# Altium integrated library Actel ProASIC3.IntLib: 427 symbols (part 37 of 68)
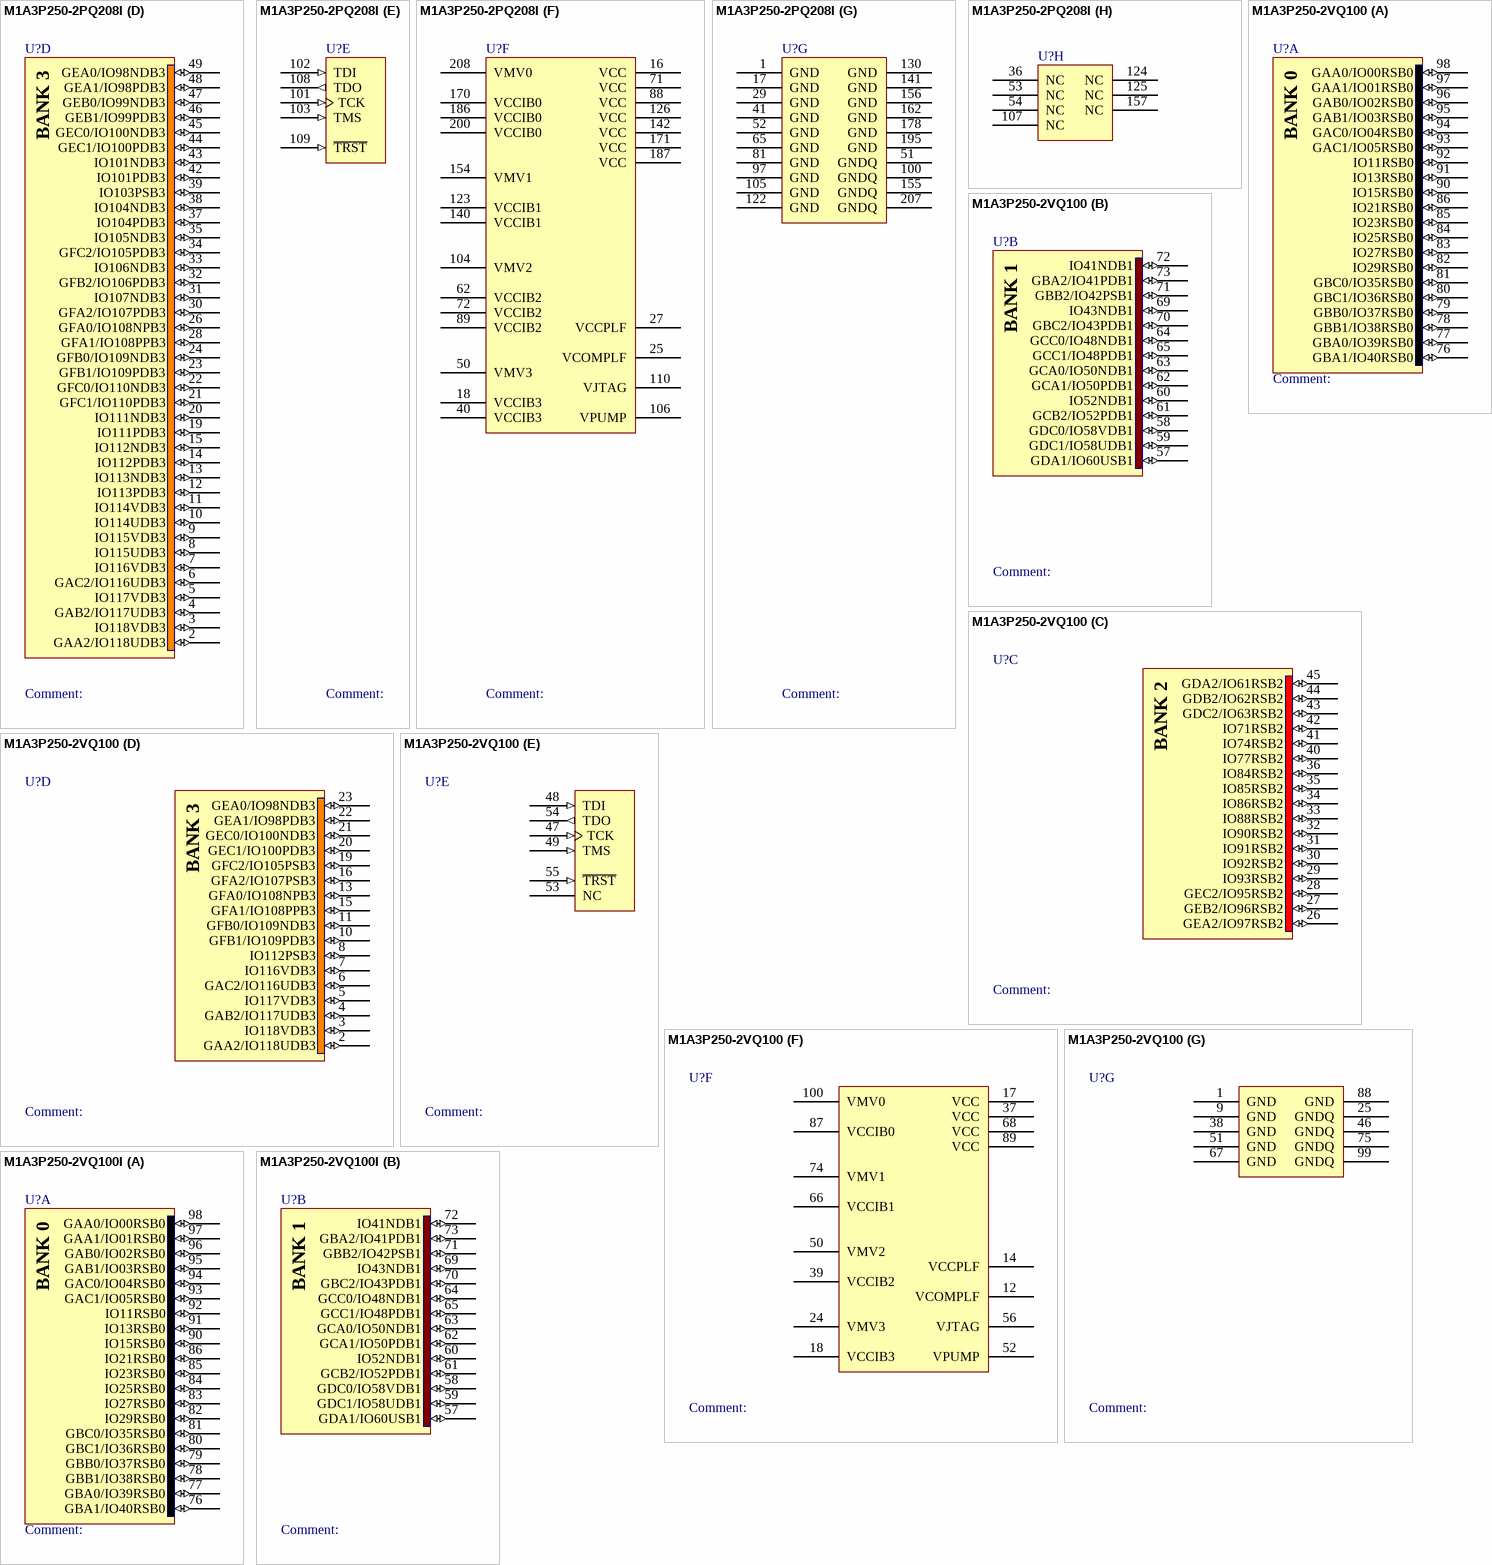
[diagram p419: symbols M1A3P250-2PQ208I to M1A3P250-2VQ100I]

## M1A3P250-2PQ208I
designator U?
M1-Ready ProASIC3 Flash Family FPGA, 151 User IOs, 250K System Gates, 36 Kbits RAM, 1 Kbit Flash ROM, 1 PLL, 208-Pin PQFP, Industrial Grade; Published: 30-Apr-2009; DatasheetVersion: v1.1, Feb-2009; PackageVersion: v11.0, Feb-2009; PackageReference: PQ208; Publisher: Altium Limited; PackageDescription: 208-Pin Plastic Quad Flat Pack (PQ208); Code_JEDEC: MS-029-FA-1; ComponentLink1Description: Manufacturer Link; ComponentLink1URL: http://www.actel.com/products/pa3/; ComponentLink2Description: Datasheet; ComponentLink2URL: http://www.actel.com/documents/PA3_DS.pdf; ComponentLink3Description: Packaging Specification; ComponentLink3URL: http://www.actel.com/documents/PckgMechDrwngs.pdf
footprint PQ208_N (Shrink QFP, 208-Leads, Body 28x28mm, Pitch 0.5mm, IPC Medium Density)
footprint PQ208_L (Shrink QFP, 208-Leads, Body 28x28mm, Pitch 0.5mm, IPC High Density)
footprint PQ208_M (Shrink QFP, 208-Leads, Body 28x28mm, Pitch 0.5mm, IPC Low Density)
3D model M1A3P250-PQ208 (208-Pin Plastic Quad Flat Pack (PQ208))
signal-integrity model M1A3P250_PQ208 (ProASIC3)
part A pins: 158 GBA1/IO40RSB0 (io), 159 GBA0/IO39RSB0 (io), 160 GBB1/IO38RSB0 (io), 161 GBB0/IO37RSB0 (io), 163 GBC1/IO36RSB0 (io), 164 GBC0/IO35RSB0 (io), 165 IO34RSB0 (io), 166 IO33RSB0 (io), 167 IO32RSB0 (io), 168 IO31RSB0 (io), 169 IO30RSB0 (io), 172 IO29RSB0 (io), 173 IO28RSB0 (io), 174 IO27RSB0 (io), 175 IO26RSB0 (io), 176 IO25RSB0 (io), 177 IO24RSB0 (io), 179 IO23RSB0 (io), 180 IO22RSB0 (io), 181 IO21RSB0 (io), 182 IO20RSB0 (io), 183 IO19RSB0 (io), 184 IO18RSB0 (io), 185 IO17RSB0 (io), 188 IO16RSB0 (io), 189 IO15RSB0 (io), 190 IO14RSB0 (io), 191 IO13RSB0 (io), 192 IO12RSB0 (io), 193 IO11RSB0 (io), 194 IO10RSB0 (io), 196 IO09RSB0 (io), 197 IO08RSB0 (io), 198 IO07RSB0 (io), 199 IO06RSB0 (io), 201 GAC1/IO05RSB0 (io), 202 GAC0/IO04RSB0 (io), 203 GAB1/IO03RSB0 (io), 204 GAB0/IO02RSB0 (io), 205 GAA1/IO01RSB0 (io), 206 GAA0/IO00RSB0 (io)
part B pins: 111 GDA0/IO60VDB1 (io), 112 GDA1/IO60UDB1 (io), 113 GDB0/IO59VDB1 (io), 114 GDB1/IO59UDB1 (io), 115 GDC0/IO58VDB1 (io), 116 GDC1/IO58UDB1 (io), 117 IO57VDB1 (io), 118 IO57UDB1 (io), 119 IO56NDB1 (io), 120 IO56PDB1 (io), 121 IO55RSB1 (io), 127 IO53NDB1 (io), 128 GCC2/IO53PDB1 (io), 129 GCB2/IO52PSB1 (io), 131 GCA2/IO51PSB1 (io), 132 GCA1/IO50PDB1 (io), 133 GCA0/IO50NDB1 (io), 134 GCB0/IO49NDB1 (io), 135 GCB1/IO49PDB1 (io), 136 GCC0/IO48NDB1 (io), 137 GCC1/IO48PDB1 (io), 138 IO47NDB1 (io), 139 IO47PDB1 (io), 143 IO46RSB1 (io), 144 IO45NDB1 (io), 145 IO45PDB1 (io), 146 IO44NDB1 (io), 147 IO44PDB1 (io), 148 IO43NDB1 (io), 149 GBC2/IO43PDB1 (io), 150 IO42NDB1 (io), 151 GBB2/IO42PDB1 (io), 152 IO41NDB1 (io), 153 GBA2/IO41PDB1 (io)
part C pins: 55 GEA2/IO97RSB2 (io), 56 GEB2/IO96RSB2 (io), 57 GEC2/IO95RSB2 (io), 58 IO94RSB2 (io), 59 IO93RSB2 (io), 60 IO92RSB2 (io), 61 IO91RSB2 (io), 63 IO90RSB2 (io), 64 IO89RSB2 (io), 66 IO88RSB2 (io), 67 IO87RSB2 (io), 68 IO86RSB2 (io), 69 IO85RSB2 (io), 70 IO84RSB2 (io), 73 IO83RSB2 (io), 74 IO82RSB2 (io), 75 IO81RSB2 (io), 76 IO80RSB2 (io), 77 IO79RSB2 (io), 78 IO78RSB2 (io), 79 IO77RSB2 (io), 80 IO76RSB2 (io), 82 IO75RSB2 (io), 83 IO74RSB2 (io), 84 IO73RSB2 (io), 85 IO72RSB2 (io), 86 IO71RSB2 (io), 87 IO70RSB2 (io), 90 IO69RSB2 (io), 91 IO68RSB2 (io), 92 IO67RSB2 (io), 93 IO66RSB2 (io), 94 IO65RSB2 (io), 95 IO64RSB2 (io), 96 GDC2/IO63RSB2 (io), 98 GDB2/IO62RSB2 (io), 99 GDA2/IO61RSB2 (io)
part D pins: 2 GAA2/IO118UDB3 (io), 3 IO118VDB3 (io), 4 GAB2/IO117UDB3 (io), 5 IO117VDB3 (io), 6 GAC2/IO116UDB3 (io), 7 IO116VDB3 (io), 8 IO115UDB3 (io), 9 IO115VDB3 (io), 10 IO114UDB3 (io), 11 IO114VDB3 (io), 12 IO113PDB3 (io), 13 IO113NDB3 (io), 14 IO112PDB3 (io), 15 IO112NDB3 (io), 19 IO111PDB3 (io), 20 IO111NDB3 (io), 21 GFC1/IO110PDB3 (io), 22 GFC0/IO110NDB3 (io), 23 GFB1/IO109PDB3 (io), 24 GFB0/IO109NDB3 (io), 26 GFA0/IO108NPB3 (io), 28 GFA1/IO108PPB3 (io), 30 GFA2/IO107PDB3 (io), 31 IO107NDB3 (io), 32 GFB2/IO106PDB3 (io), 33 IO106NDB3 (io), 34 GFC2/IO105PDB3 (io), 35 IO105NDB3 (io), 37 IO104PDB3 (io), 38 IO104NDB3 (io), 39 IO103PSB3 (io), 42 IO101PDB3 (io), 43 IO101NDB3 (io), 44 GEC1/IO100PDB3 (io), 45 GEC0/IO100NDB3 (io), 46 GEB1/IO99PDB3 (io), 47 GEB0/IO99NDB3 (io), 48 GEA1/IO98PDB3 (io), 49 GEA0/IO98NDB3 (io)
part E pins: 101 TCK (in), 102 TDI (in), 103 TMS (in), 108 TDO (out), 109 ~{TRST} (in)
part F pins: 16 VCC (power), 18 VCCIB3 (power), 25 VCOMPLF (power), 27 VCCPLF (power), 40 VCCIB3 (power), 50 VMV3 (power), 62 VCCIB2 (power), 71 VCC (power), 72 VCCIB2 (power), 88 VCC (power), 89 VCCIB2 (power), 104 VMV2 (power), 106 VPUMP (power), 110 VJTAG (power), 123 VCCIB1 (power), 126 VCC (power), 140 VCCIB1 (power), 142 VCC (power), 154 VMV1 (power), 170 VCCIB0 (power), 171 VCC (power), 186 VCCIB0 (power), 187 VCC (power), 200 VCCIB0 (power), 208 VMV0 (power)
part G pins: 1 GND (power), 17 GND (power), 29 GND (power), 41 GND (power), 51 GNDQ (power), 52 GND (power), 65 GND (power), 81 GND (power), 97 GND (power), 100 GNDQ (power), 105 GND (power), 122 GND (power), 130 GND (power), 141 GND (power), 155 GNDQ (power), 156 GND (power), 162 GND (power), 178 GND (power), 195 GND (power), 207 GNDQ (power)
part H pins: 36 NC, 53 NC, 54 NC, 107 NC, 124 NC, 125 NC, 157 NC
part A text: BANK 0
part B text: BANK 1
part C text: BANK 2
part D text: BANK 3

## M1A3P250-2VQ100
designator U?
M1-Ready ProASIC3 Flash Family FPGA, 68 User IOs, 250K System Gates, 36 Kbits RAM, 1 Kbit Flash ROM, 1 PLL, 100-Pin VQFP, Commercial Grade; Published: 30-Apr-2009; DatasheetVersion: v1.1, Feb-2009; PackageVersion: v11.0, Feb-2009; PackageReference: VQ100; Publisher: Altium Limited; PackageDescription: 100-Pin Plastic Quad Flat Pack (VQ100); Code_JEDEC: MS-026-AED; ComponentLink1Description: Manufacturer Link; ComponentLink1URL: http://www.actel.com/products/pa3/; ComponentLink2Description: Datasheet; ComponentLink2URL: http://www.actel.com/documents/PA3_DS.pdf; ComponentLink3Description: Packaging Specification; ComponentLink3URL: http://www.actel.com/documents/PckgMechDrwngs.pdf
footprint VQ100_N (Thin QFP, 100-Leads, Body 14x14mm, Pitch 0.5mm, IPC Medium Density)
footprint VQ100_L (Thin QFP, 100-Leads, Body 14x14mm, Pitch 0.5mm, IPC High Density)
footprint VQ100_M (Thin QFP, 100-Leads, Body 14x14mm, Pitch 0.5mm, IPC Low Density)
3D model M1A3P250-VQ100 (100-Pin Plastic Quad Flat Pack (VQ100))
signal-integrity model M1A3P250_VQ100 (ProASIC3)
part A pins: 76 GBA1/IO40RSB0 (io), 77 GBA0/IO39RSB0 (io), 78 GBB1/IO38RSB0 (io), 79 GBB0/IO37RSB0 (io), 80 GBC1/IO36RSB0 (io), 81 GBC0/IO35RSB0 (io), 82 IO29RSB0 (io), 83 IO27RSB0 (io), 84 IO25RSB0 (io), 85 IO23RSB0 (io), 86 IO21RSB0 (io), 90 IO15RSB0 (io), 91 IO13RSB0 (io), 92 IO11RSB0 (io), 93 GAC1/IO05RSB0 (io), 94 GAC0/IO04RSB0 (io), 95 GAB1/IO03RSB0 (io), 96 GAB0/IO02RSB0 (io), 97 GAA1/IO01RSB0 (io), 98 GAA0/IO00RSB0 (io)
part B pins: 57 GDA1/IO60USB1 (io), 58 GDC0/IO58VDB1 (io), 59 GDC1/IO58UDB1 (io), 60 IO52NDB1 (io), 61 GCB2/IO52PDB1 (io), 62 GCA1/IO50PDB1 (io), 63 GCA0/IO50NDB1 (io), 64 GCC0/IO48NDB1 (io), 65 GCC1/IO48PDB1 (io), 69 IO43NDB1 (io), 70 GBC2/IO43PDB1 (io), 71 GBB2/IO42PSB1 (io), 72 IO41NDB1 (io), 73 GBA2/IO41PDB1 (io)
part C pins: 26 GEA2/IO97RSB2 (io), 27 GEB2/IO96RSB2 (io), 28 GEC2/IO95RSB2 (io), 29 IO93RSB2 (io), 30 IO92RSB2 (io), 31 IO91RSB2 (io), 32 IO90RSB2 (io), 33 IO88RSB2 (io), 34 IO86RSB2 (io), 35 IO85RSB2 (io), 36 IO84RSB2 (io), 40 IO77RSB2 (io), 41 IO74RSB2 (io), 42 IO71RSB2 (io), 43 GDC2/IO63RSB2 (io), 44 GDB2/IO62RSB2 (io), 45 GDA2/IO61RSB2 (io)
part D pins: 2 GAA2/IO118UDB3 (io), 3 IO118VDB3 (io), 4 GAB2/IO117UDB3 (io), 5 IO117VDB3 (io), 6 GAC2/IO116UDB3 (io), 7 IO116VDB3 (io), 8 IO112PSB3 (io), 10 GFB1/IO109PDB3 (io), 11 GFB0/IO109NDB3 (io), 13 GFA0/IO108NPB3 (io), 15 GFA1/IO108PPB3 (io), 16 GFA2/IO107PSB3 (io), 19 GFC2/IO105PSB3 (io), 20 GEC1/IO100PDB3 (io), 21 GEC0/IO100NDB3 (io), 22 GEA1/IO98PDB3 (io), 23 GEA0/IO98NDB3 (io)
part E pins: 47 TCK (in), 48 TDI (in), 49 TMS (in), 53 NC, 54 TDO (out), 55 ~{TRST} (in)
part F pins: 12 VCOMPLF (power), 14 VCCPLF (power), 17 VCC (power), 18 VCCIB3 (power), 24 VMV3 (power), 37 VCC (power), 39 VCCIB2 (power), 50 VMV2 (power), 52 VPUMP (power), 56 VJTAG (power), 66 VCCIB1 (power), 68 VCC (power), 74 VMV1 (power), 87 VCCIB0 (power), 89 VCC (power), 100 VMV0 (power)
part G pins: 1 GND (power), 9 GND (power), 25 GNDQ (power), 38 GND (power), 46 GNDQ (power), 51 GND (power), 67 GND (power), 75 GNDQ (power), 88 GND (power), 99 GNDQ (power)
part A text: BANK 0
part B text: BANK 1
part C text: BANK 2
part D text: BANK 3

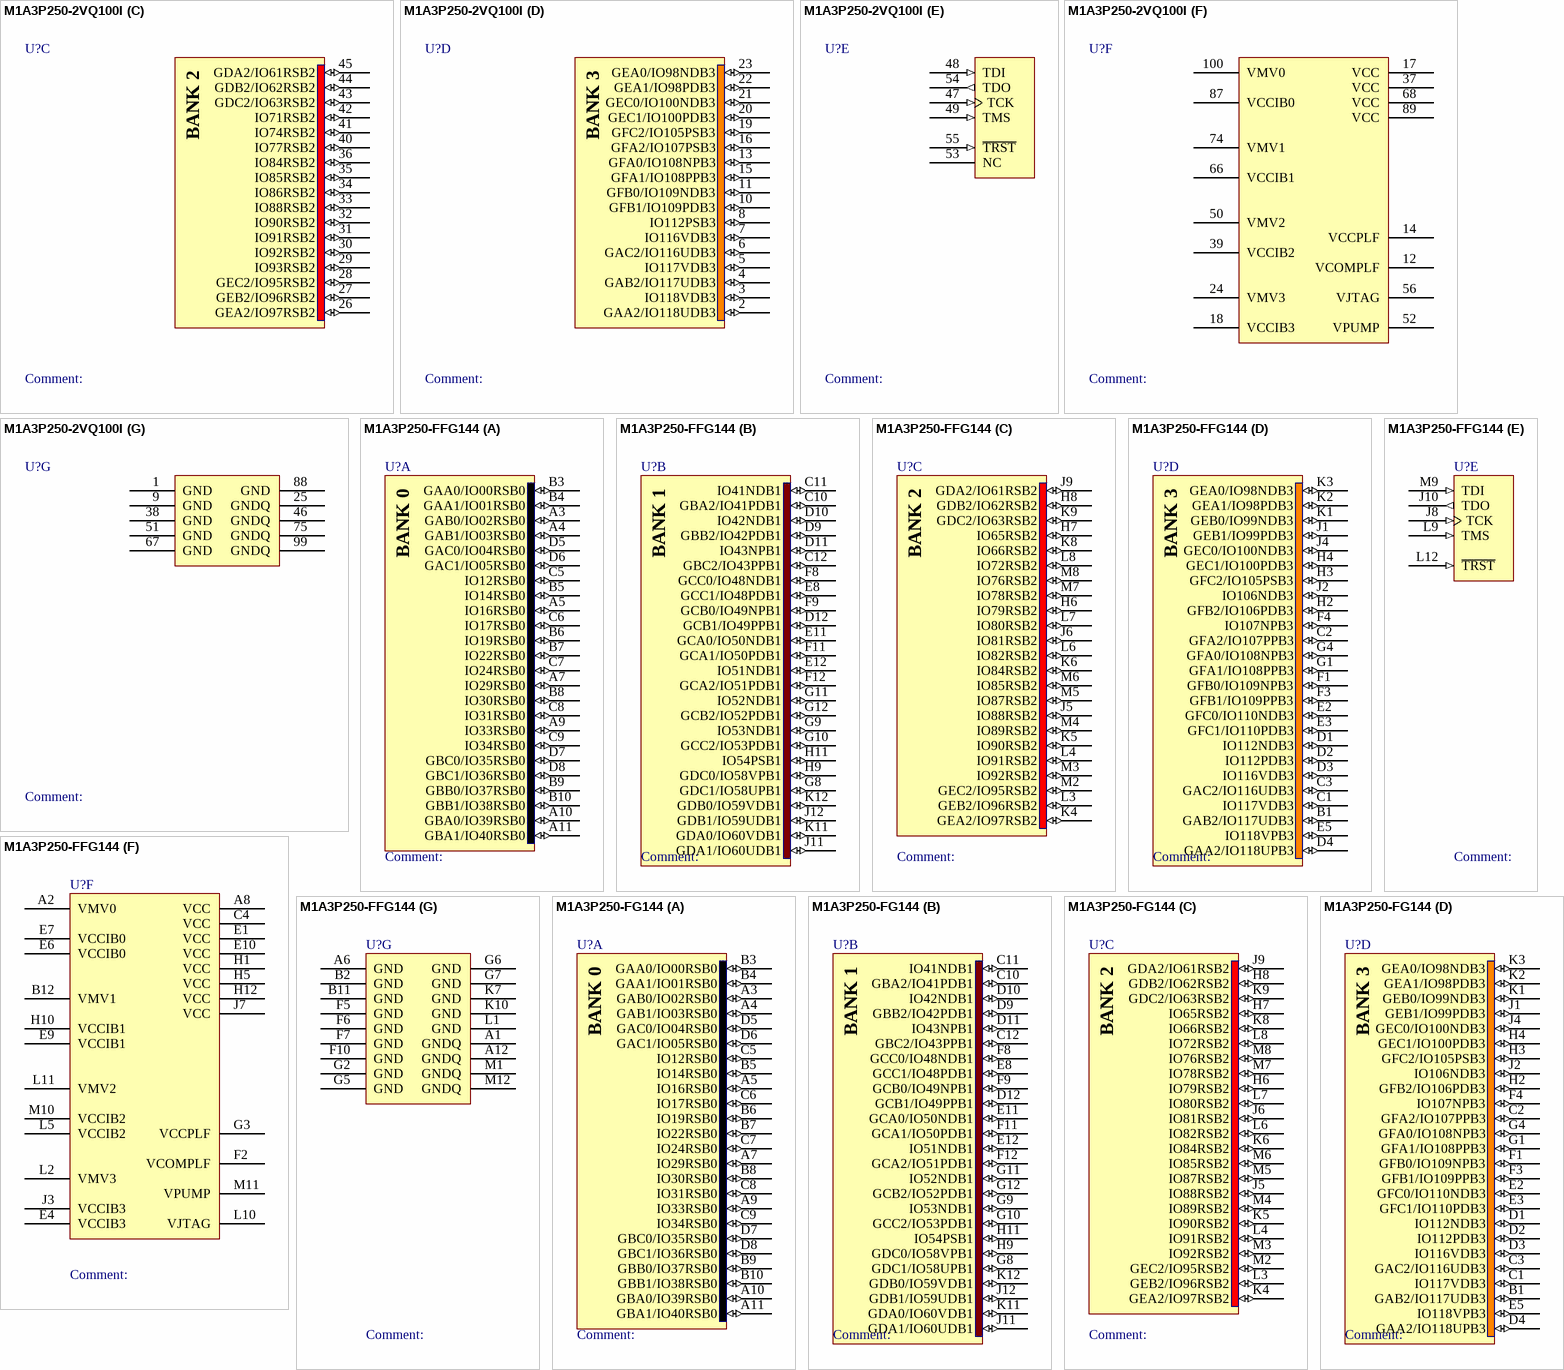
[diagram p145: symbols M1A3P250-2VQ100I to M1A3P250-FG144]